# Altium schematic symbol library WCAP-ATLI.SchLib: 162 symbols (part 2 of 4)
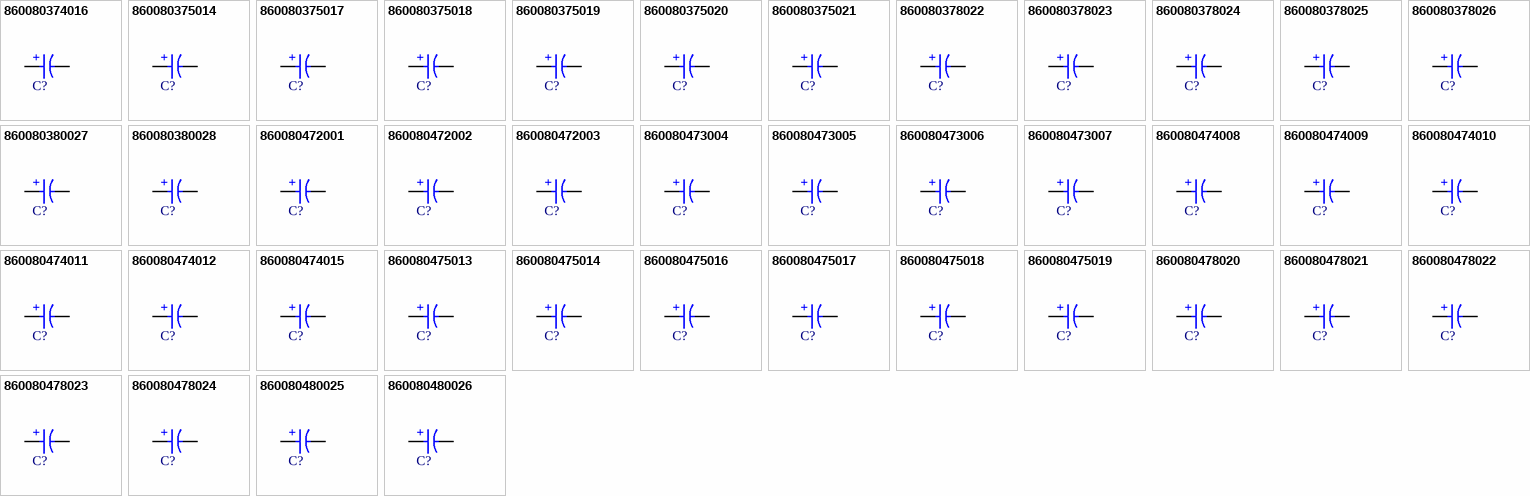
[diagram p5: symbols 860080374016 to 860080480026]

## 860080378026
designator C?, comment 3300µF  (value not drawn)
WCAP-ATLI Aluminum Electrolytic Capacitor, Radial, THT, D13 x H35mm, 3300µF, 16V; Manufacturer Part Number: 860080378026; Manufacturer: Wurth Elektronik; Capacitance Tolerance: +/-20%; Dissipation Factor: 12%; Endurance: 5000h; Leakage Current: 528µA; Ripple Current: 3490mA; Technical Reference: ATEI350332M016DSPABE000; Category: Aluminum Electrolytic Capacitors; Match Code: WCAP-ATLI; ComponentLink1Description: Website Link; ComponentLink1URL: https://www.we-online.com/redexpert/article/860080378026?ad; ComponentLink2Description: Datasheet Link; ComponentLink2URL: https://www.we-online.com/redexpert/spec/860080378026?ad; Mount: Through Hole; Operating Temperature Max: 105°C; Operating Temperature Min: -55°C; Packaging: Ammo Pack; Height: 35mm; Diameter: 13mm; Capacitance: 3300µF; Rated Voltage (DC): 16V
footprint WCAP-ATLI_D13H35
simulation model 860080378026_3.3mF
pins: 1 P, 2 N
text: +

## 860080380027
designator C?, comment 3900µF  (value not drawn)
WCAP-ATLI Aluminum Electrolytic Capacitor, Radial, THT, D16 x H25mm, 3900µF, 16V; Manufacturer Part Number: 860080380027; Manufacturer: Wurth Elektronik; Capacitance Tolerance: +/-20%; Dissipation Factor: 12%; Endurance: 5000h; Leakage Current: 624µA; Ripple Current: 3520mA; Technical Reference: ATEK250392M016DSPAEE000; Category: Aluminum Electrolytic Capacitors; Match Code: WCAP-ATLI; ComponentLink1Description: Website Link; ComponentLink1URL: https://www.we-online.com/redexpert/article/860080380027?ad; ComponentLink2Description: Datasheet Link; ComponentLink2URL: https://www.we-online.com/redexpert/spec/860080380027?ad; Mount: Through Hole; Operating Temperature Max: 105°C; Operating Temperature Min: -55°C; Packaging: Ammo Pack; Height: 25mm; Diameter: 16mm; Capacitance: 3900µF; Rated Voltage (DC): 16V
footprint WCAP-ATLI_D16H25
simulation model 860080380027_3.9mF
pins: 1 P, 2 N
text: +

## 860080380028
designator C?, comment 4700µF  (value not drawn)
WCAP-ATLI Aluminum Electrolytic Capacitor, Radial, THT, D16 x H31.5mm, 4700µF, 16V; Manufacturer Part Number: 860080380028; Manufacturer: Wurth Elektronik; Capacitance Tolerance: +/-20%; Dissipation Factor: 12%; Endurance: 5000h; Leakage Current: 752µA; Ripple Current: 3770mA; Technical Reference: ATEK315472M016DSPADE000; Category: Aluminum Electrolytic Capacitors; Match Code: WCAP-ATLI; ComponentLink1Description: Website Link; ComponentLink1URL: https://www.we-online.com/redexpert/article/860080380028?ad; ComponentLink2Description: Datasheet Link; ComponentLink2URL: https://www.we-online.com/redexpert/spec/860080380028?ad; Mount: Through Hole; Operating Temperature Max: 105°C; Operating Temperature Min: -55°C; Packaging: Ammo Pack; Height: 31.5mm; Diameter: 16mm; Capacitance: 4700µF; Rated Voltage (DC): 16V
footprint WCAP-ATLI_D16H31.5
simulation model 860080380028_4.7mF
pins: 1 P, 2 N
text: +

## 860080472001
designator C?, comment 39µF  (value not drawn)
WCAP-ATLI Aluminum Electrolytic Capacitor, Radial, THT, D5 x H11mm, 39µF, 25V; Manufacturer Part Number: 860080472001; Manufacturer: Wurth Elektronik; Capacitance Tolerance: +/-20%; Dissipation Factor: 10%; Endurance: 2000h; Leakage Current: 9.75µA; Ripple Current: 210mA; Technical Reference: ATEC110390M025DSPA3B000; Category: Aluminum Electrolytic Capacitors; Match Code: WCAP-ATLI; ComponentLink1Description: Website Link; ComponentLink1URL: https://www.we-online.com/redexpert/article/860080472001?ad; ComponentLink2Description: Datasheet Link; ComponentLink2URL: https://www.we-online.com/redexpert/spec/860080472001?ad; Mount: Through Hole; Operating Temperature Max: 105°C; Operating Temperature Min: -55°C; Packaging: Ammo Pack; Height: 11mm; Diameter: 5mm; Capacitance: 39µF; Rated Voltage (DC): 25V
footprint WCAP-ATLI_D5H11
simulation model 860080472001_39uF
pins: 1 P, 2 N
text: +

## 860080472002
designator C?, comment 47µF  (value not drawn)
WCAP-ATLI Aluminum Electrolytic Capacitor, Radial, THT, D5 x H11mm, 47µF, 25V; Manufacturer Part Number: 860080472002; Manufacturer: Wurth Elektronik; Capacitance Tolerance: +/-20%; Dissipation Factor: 10%; Endurance: 2000h; Leakage Current: 11.75µA; Ripple Current: 240mA; Technical Reference: ATEC110470M025DSPA3B000; Category: Aluminum Electrolytic Capacitors; Match Code: WCAP-ATLI; ComponentLink1Description: Website Link; ComponentLink1URL: https://www.we-online.com/redexpert/article/860080472002?ad; ComponentLink2Description: Datasheet Link; ComponentLink2URL: https://www.we-online.com/redexpert/spec/860080472002?ad; Mount: Through Hole; Operating Temperature Max: 105°C; Operating Temperature Min: -55°C; Packaging: Ammo Pack; Height: 11mm; Diameter: 5mm; Capacitance: 47µF; Rated Voltage (DC): 25V
footprint WCAP-ATLI_D5H11
simulation model 860080472002_47uF
pins: 1 P, 2 N
text: +

## 860080472003
designator C?, comment 56µF  (value not drawn)
WCAP-ATLI Aluminum Electrolytic Capacitor, Radial, THT, D5 x H11mm, 56µF, 25V; Manufacturer Part Number: 860080472003; Manufacturer: Wurth Elektronik; Capacitance Tolerance: +/-20%; Dissipation Factor: 10%; Endurance: 2000h; Leakage Current: 14µA; Ripple Current: 256mA; Technical Reference: ATEC110560M025DSPA3B000; Category: Aluminum Electrolytic Capacitors; Match Code: WCAP-ATLI; ComponentLink1Description: Website Link; ComponentLink1URL: https://www.we-online.com/redexpert/article/860080472003?ad; ComponentLink2Description: Datasheet Link; ComponentLink2URL: https://www.we-online.com/redexpert/spec/860080472003?ad; Mount: Through Hole; Operating Temperature Max: 105°C; Operating Temperature Min: -55°C; Packaging: Ammo Pack; Height: 11mm; Diameter: 5mm; Capacitance: 56µF; Rated Voltage (DC): 25V
footprint WCAP-ATLI_D5H11
simulation model 860080472003_56uF
pins: 1 P, 2 N
text: +

## 860080473004
designator C?, comment 68µF  (value not drawn)
WCAP-ATLI Aluminum Electrolytic Capacitor, Radial, THT, D6.3 x H11mm, 68µF, 25V; Manufacturer Part Number: 860080473004; Manufacturer: Wurth Elektronik; Capacitance Tolerance: +/-20%; Dissipation Factor: 10%; Endurance: 2000h; Leakage Current: 17µA; Ripple Current: 300mA; Technical Reference: ATED110680M025DSPA4B000; Category: Aluminum Electrolytic Capacitors; Match Code: WCAP-ATLI; ComponentLink1Description: Website Link; ComponentLink1URL: https://www.we-online.com/redexpert/article/860080473004?ad; ComponentLink2Description: Datasheet Link; ComponentLink2URL: https://www.we-online.com/redexpert/spec/860080473004?ad; Mount: Through Hole; Operating Temperature Max: 105°C; Operating Temperature Min: -55°C; Packaging: Ammo Pack; Height: 11mm; Diameter: 6.3mm; Capacitance: 68µF; Rated Voltage (DC): 25V
footprint WCAP-ATLI_D6.3H11
simulation model 860080473004_68uF
pins: 1 P, 2 N
text: +

## 860080473005
designator C?, comment 82µF  (value not drawn)
WCAP-ATLI Aluminum Electrolytic Capacitor, Radial, THT, D6.3 x H11mm, 82µF, 25V; Manufacturer Part Number: 860080473005; Manufacturer: Wurth Elektronik; Capacitance Tolerance: +/-20%; Dissipation Factor: 10%; Endurance: 2000h; Leakage Current: 20.5µA; Ripple Current: 350mA; Technical Reference: ATED110820M025DSPA4B000; Category: Aluminum Electrolytic Capacitors; Match Code: WCAP-ATLI; ComponentLink1Description: Website Link; ComponentLink1URL: https://www.we-online.com/redexpert/article/860080473005?ad; ComponentLink2Description: Datasheet Link; ComponentLink2URL: https://www.we-online.com/redexpert/spec/860080473005?ad; Mount: Through Hole; Operating Temperature Max: 105°C; Operating Temperature Min: -55°C; Packaging: Ammo Pack; Height: 11mm; Diameter: 6.3mm; Capacitance: 82µF; Rated Voltage (DC): 25V
footprint WCAP-ATLI_D6.3H11
simulation model 860080473005_82uF
pins: 1 P, 2 N
text: +

## 860080473006
designator C?, comment 100µF  (value not drawn)
WCAP-ATLI Aluminum Electrolytic Capacitor, Radial, THT, D6.3 x H11mm, 100µF, 25V; Manufacturer Part Number: 860080473006; Manufacturer: Wurth Elektronik; Capacitance Tolerance: +/-20%; Dissipation Factor: 10%; Endurance: 2000h; Leakage Current: 25µA; Ripple Current: 410mA; Technical Reference: ATED110101M025DSPA4B000; Category: Aluminum Electrolytic Capacitors; Match Code: WCAP-ATLI; ComponentLink1Description: Website Link; ComponentLink1URL: https://www.we-online.com/redexpert/article/860080473006?ad; ComponentLink2Description: Datasheet Link; ComponentLink2URL: https://www.we-online.com/redexpert/spec/860080473006?ad; Mount: Through Hole; Operating Temperature Max: 105°C; Operating Temperature Min: -55°C; Packaging: Ammo Pack; Height: 11mm; Diameter: 6.3mm; Capacitance: 100µF; Rated Voltage (DC): 25V
footprint WCAP-ATLI_D6.3H11
simulation model 860080473006_100uF
pins: 1 P, 2 N
text: +

## 860080473007
designator C?, comment 120µF  (value not drawn)
WCAP-ATLI Aluminum Electrolytic Capacitor, Radial, THT, D6.3 x H15mm, 120µF, 25V; Manufacturer Part Number: 860080473007; Manufacturer: Wurth Elektronik; Capacitance Tolerance: +/-20%; Dissipation Factor: 10%; Endurance: 2000h; Leakage Current: 30µA; Ripple Current: 490mA; Technical Reference: ATED150121M025DSPA4B000; Category: Aluminum Electrolytic Capacitors; Match Code: WCAP-ATLI; ComponentLink1Description: Website Link; ComponentLink1URL: https://www.we-online.com/redexpert/article/860080473007?ad; ComponentLink2Description: Datasheet Link; ComponentLink2URL: https://www.we-online.com/redexpert/spec/860080473007?ad; Mount: Through Hole; Operating Temperature Max: 105°C; Operating Temperature Min: -55°C; Packaging: Ammo Pack; Height: 15mm; Diameter: 6.3mm; Capacitance: 120µF; Rated Voltage (DC): 25V
footprint WCAP-ATLI_D6.3H15
simulation model 860080473007_120uF
pins: 1 P, 2 N
text: +

## 860080474008
designator C?, comment 150µF  (value not drawn)
WCAP-ATLI Aluminum Electrolytic Capacitor, Radial, THT, D8 x H11.5mm, 150µF, 25V; Manufacturer Part Number: 860080474008; Manufacturer: Wurth Elektronik; Capacitance Tolerance: +/-20%; Dissipation Factor: 10%; Endurance: 3000h; Leakage Current: 37.5µA; Ripple Current: 540mA; Technical Reference: ATEE115151M025DSPA7C000; Category: Aluminum Electrolytic Capacitors; Match Code: WCAP-ATLI; ComponentLink1Description: Website Link; ComponentLink1URL: https://www.we-online.com/redexpert/article/860080474008?ad; ComponentLink2Description: Datasheet Link; ComponentLink2URL: https://www.we-online.com/redexpert/spec/860080474008?ad; Mount: Through Hole; Operating Temperature Max: 105°C; Operating Temperature Min: -55°C; Packaging: Ammo Pack; Height: 11.5mm; Diameter: 8mm; Capacitance: 150µF; Rated Voltage (DC): 25V
footprint WCAP-ATLI_D8H11.5
simulation model 860080474008_150uF
pins: 1 P, 2 N
text: +

## 860080474009
designator C?, comment 180µF  (value not drawn)
WCAP-ATLI Aluminum Electrolytic Capacitor, Radial, THT, D8 x H11.5mm, 180µF, 25V; Manufacturer Part Number: 860080474009; Manufacturer: Wurth Elektronik; Capacitance Tolerance: +/-20%; Dissipation Factor: 10%; Endurance: 3000h; Leakage Current: 45µA; Ripple Current: 620mA; Technical Reference: ATEE115181M025DSPA7C000; Category: Aluminum Electrolytic Capacitors; Match Code: WCAP-ATLI; ComponentLink1Description: Website Link; ComponentLink1URL: https://www.we-online.com/redexpert/article/860080474009?ad; ComponentLink2Description: Datasheet Link; ComponentLink2URL: https://www.we-online.com/redexpert/spec/860080474009?ad; Mount: Through Hole; Operating Temperature Max: 105°C; Operating Temperature Min: -55°C; Packaging: Ammo Pack; Height: 11.5mm; Diameter: 8mm; Capacitance: 180µF; Rated Voltage (DC): 25V
footprint WCAP-ATLI_D8H11.5
simulation model 860080474009_180uF
pins: 1 P, 2 N
text: +

## 860080474010
designator C?, comment 220µF  (value not drawn)
WCAP-ATLI Aluminum Electrolytic Capacitor, Radial, THT, D8 x H11.5mm, 220µF, 25V; Manufacturer Part Number: 860080474010; Manufacturer: Wurth Elektronik; Capacitance Tolerance: +/-20%; Dissipation Factor: 10%; Endurance: 3000h; Leakage Current: 55µA; Ripple Current: 750mA; Technical Reference: ATEE115221M025DSPA7C000; Category: Aluminum Electrolytic Capacitors; Match Code: WCAP-ATLI; ComponentLink1Description: Website Link; ComponentLink1URL: https://www.we-online.com/redexpert/article/860080474010?ad; ComponentLink2Description: Datasheet Link; ComponentLink2URL: https://www.we-online.com/redexpert/spec/860080474010?ad; Mount: Through Hole; Operating Temperature Max: 105°C; Operating Temperature Min: -55°C; Packaging: Ammo Pack; Height: 11.5mm; Diameter: 8mm; Capacitance: 220µF; Rated Voltage (DC): 25V
footprint WCAP-ATLI_D8H11.5
simulation model 860080474010_220uF
pins: 1 P, 2 N
text: +

## 860080474011
designator C?, comment 270µF  (value not drawn)
WCAP-ATLI Aluminum Electrolytic Capacitor, Radial, THT, D8 x H16mm, 270µF, 25V; Manufacturer Part Number: 860080474011; Manufacturer: Wurth Elektronik; Capacitance Tolerance: +/-20%; Dissipation Factor: 10%; Endurance: 3000h; Leakage Current: 67.5µA; Ripple Current: 850mA; Technical Reference: ATEE160271M025DSPA7C000; Category: Aluminum Electrolytic Capacitors; Match Code: WCAP-ATLI; ComponentLink1Description: Website Link; ComponentLink1URL: https://www.we-online.com/redexpert/article/860080474011?ad; ComponentLink2Description: Datasheet Link; ComponentLink2URL: https://www.we-online.com/redexpert/spec/860080474011?ad; Mount: Through Hole; Operating Temperature Max: 105°C; Operating Temperature Min: -55°C; Packaging: Ammo Pack; Height: 16mm; Diameter: 8mm; Capacitance: 270µF; Rated Voltage (DC): 25V
footprint WCAP-ATLI_D8H16
simulation model 860080474011_270uF
pins: 1 P, 2 N
text: +

## 860080474012
designator C?, comment 330µF  (value not drawn)
WCAP-ATLI Aluminum Electrolytic Capacitor, Radial, THT, D8 x H16mm, 330µF, 25V; Manufacturer Part Number: 860080474012; Manufacturer: Wurth Elektronik; Capacitance Tolerance: +/-20%; Dissipation Factor: 10%; Endurance: 3000h; Leakage Current: 82.5µA; Ripple Current: 990mA; Technical Reference: ATEE160331M025DSPA7C000; Category: Aluminum Electrolytic Capacitors; Match Code: WCAP-ATLI; ComponentLink1Description: Website Link; ComponentLink1URL: https://www.we-online.com/redexpert/article/860080474012?ad; ComponentLink2Description: Datasheet Link; ComponentLink2URL: https://www.we-online.com/redexpert/spec/860080474012?ad; Mount: Through Hole; Operating Temperature Max: 105°C; Operating Temperature Min: -55°C; Packaging: Ammo Pack; Height: 16mm; Diameter: 8mm; Capacitance: 330µF; Rated Voltage (DC): 25V
footprint WCAP-ATLI_D8H16
simulation model 860080474012_330uF
pins: 1 P, 2 N
text: +

## 860080474015
designator C?, comment 470µF  (value not drawn)
WCAP-ATLI Aluminum Electrolytic Capacitor, Radial, THT, D8 x H20mm, 470µF, 25V; Manufacturer Part Number: 860080474015; Manufacturer: Wurth Elektronik; Capacitance Tolerance: +/-20%; Dissipation Factor: 10%; Endurance: 3000h; Leakage Current: 117.5µA; Ripple Current: 1260mA; Technical Reference: ATEE200471M025DSPA7C000; Category: Aluminum Electrolytic Capacitors; Match Code: WCAP-ATLI; ComponentLink1Description: Website Link; ComponentLink1URL: https://www.we-online.com/redexpert/article/860080474015?ad; ComponentLink2Description: Datasheet Link; ComponentLink2URL: https://www.we-online.com/redexpert/spec/860080474015?ad; Mount: Through Hole; Operating Temperature Max: 105°C; Operating Temperature Min: -55°C; Packaging: Ammo Pack; Height: 20mm; Diameter: 8mm; Capacitance: 470µF; Rated Voltage (DC): 25V
footprint WCAP-ATLI_D8H20
simulation model 860080474015_470uF
pins: 1 P, 2 N
text: +

## 860080475013
designator C?, comment 330µF  (value not drawn)
WCAP-ATLI Aluminum Electrolytic Capacitor, Radial, THT, D10 x H12.5mm, 330µF, 25V; Manufacturer Part Number: 860080475013; Manufacturer: Wurth Elektronik; Capacitance Tolerance: +/-20%; Dissipation Factor: 10%; Endurance: 5000h; Leakage Current: 82.5µA; Ripple Current: 1010mA; Technical Reference: ATEF125331M025DSPA9E000; Category: Aluminum Electrolytic Capacitors; Match Code: WCAP-ATLI; ComponentLink1Description: Website Link; ComponentLink1URL: https://www.we-online.com/redexpert/article/860080475013?ad; ComponentLink2Description: Datasheet Link; ComponentLink2URL: https://www.we-online.com/redexpert/spec/860080475013?ad; Mount: Through Hole; Operating Temperature Max: 105°C; Operating Temperature Min: -55°C; Packaging: Ammo Pack; Height: 12.5mm; Diameter: 10mm; Capacitance: 330µF; Rated Voltage (DC): 25V
footprint WCAP-ATLI_D10H12.5
simulation model 860080475013_330uF
pins: 1 P, 2 N
text: +

## 860080475014
designator C?, comment 390µF  (value not drawn)
WCAP-ATLI Aluminum Electrolytic Capacitor, Radial, THT, D10 x H12.5mm, 390µF, 25V; Manufacturer Part Number: 860080475014; Manufacturer: Wurth Elektronik; Capacitance Tolerance: +/-20%; Dissipation Factor: 10%; Endurance: 5000h; Leakage Current: 97.5µA; Ripple Current: 1050mA; Technical Reference: ATEF125391M025DSPA9E000; Category: Aluminum Electrolytic Capacitors; Match Code: WCAP-ATLI; ComponentLink1Description: Website Link; ComponentLink1URL: https://www.we-online.com/redexpert/article/860080475014?ad; ComponentLink2Description: Datasheet Link; ComponentLink2URL: https://www.we-online.com/redexpert/spec/860080475014?ad; Mount: Through Hole; Operating Temperature Max: 105°C; Operating Temperature Min: -55°C; Packaging: Ammo Pack; Height: 12.5mm; Diameter: 10mm; Capacitance: 390µF; Rated Voltage (DC): 25V
footprint WCAP-ATLI_D10H12.5
simulation model 860080475014_390uF
pins: 1 P, 2 N
text: +

## 860080475016
designator C?, comment 470µF  (value not drawn)
WCAP-ATLI Aluminum Electrolytic Capacitor, Radial, THT, D10 x H16mm, 470µF, 25V; Manufacturer Part Number: 860080475016; Manufacturer: Wurth Elektronik; Capacitance Tolerance: +/-20%; Dissipation Factor: 10%; Endurance: 5000h; Leakage Current: 117.5µA; Ripple Current: 1415mA; Technical Reference: ATEF160471M025DSPAAE000; Category: Aluminum Electrolytic Capacitors; Match Code: WCAP-ATLI; ComponentLink1Description: Website Link; ComponentLink1URL: https://www.we-online.com/redexpert/article/860080475016?ad; ComponentLink2Description: Datasheet Link; ComponentLink2URL: https://www.we-online.com/redexpert/spec/860080475016?ad; Mount: Through Hole; Operating Temperature Max: 105°C; Operating Temperature Min: -55°C; Packaging: Ammo Pack; Height: 16mm; Diameter: 10mm; Capacitance: 470µF; Rated Voltage (DC): 25V
footprint WCAP-ATLI_D10H16
simulation model 860080475016_470uF
pins: 1 P, 2 N
text: +

## 860080475017
designator C?, comment 560µF  (value not drawn)
WCAP-ATLI Aluminum Electrolytic Capacitor, Radial, THT, D10 x H20mm, 560µF, 25V; Manufacturer Part Number: 860080475017; Manufacturer: Wurth Elektronik; Capacitance Tolerance: +/-20%; Dissipation Factor: 10%; Endurance: 5000h; Leakage Current: 140µA; Ripple Current: 1450mA; Technical Reference: ATEF200561M025DSPAAE000; Category: Aluminum Electrolytic Capacitors; Match Code: WCAP-ATLI; ComponentLink1Description: Website Link; ComponentLink1URL: https://www.we-online.com/redexpert/article/860080475017?ad; ComponentLink2Description: Datasheet Link; ComponentLink2URL: https://www.we-online.com/redexpert/spec/860080475017?ad; Mount: Through Hole; Operating Temperature Max: 105°C; Operating Temperature Min: -55°C; Packaging: Ammo Pack; Height: 20mm; Diameter: 10mm; Capacitance: 560µF; Rated Voltage (DC): 25V
footprint WCAP-ATLI_D10H20
simulation model 860080475017_560uF
pins: 1 P, 2 N
text: +

## 860080475018
designator C?, comment 680µF  (value not drawn)
WCAP-ATLI Aluminum Electrolytic Capacitor, Radial, THT, D10 x H20mm, 680µF, 25V; Manufacturer Part Number: 860080475018; Manufacturer: Wurth Elektronik; Capacitance Tolerance: +/-20%; Dissipation Factor: 10%; Endurance: 5000h; Leakage Current: 170µA; Ripple Current: 1570mA; Technical Reference: ATEF200681M025DSPAAE000; Category: Aluminum Electrolytic Capacitors; Match Code: WCAP-ATLI; ComponentLink1Description: Website Link; ComponentLink1URL: https://www.we-online.com/redexpert/article/860080475018?ad; ComponentLink2Description: Datasheet Link; ComponentLink2URL: https://www.we-online.com/redexpert/spec/860080475018?ad; Mount: Through Hole; Operating Temperature Max: 105°C; Operating Temperature Min: -55°C; Packaging: Ammo Pack; Height: 20mm; Diameter: 10mm; Capacitance: 680µF; Rated Voltage (DC): 25V
footprint WCAP-ATLI_D10H20
simulation model 860080475018_680uF
pins: 1 P, 2 N
text: +

## 860080475019
designator C?, comment 820µF  (value not drawn)
WCAP-ATLI Aluminum Electrolytic Capacitor, Radial, THT, D10 x H25mm, 820µF, 25V; Manufacturer Part Number: 860080475019; Manufacturer: Wurth Elektronik; Capacitance Tolerance: +/-20%; Dissipation Factor: 10%; Endurance: 5000h; Leakage Current: 205µA; Ripple Current: 1910mA; Technical Reference: ATEF250821M025DSPAAE000; Category: Aluminum Electrolytic Capacitors; Match Code: WCAP-ATLI; ComponentLink1Description: Website Link; ComponentLink1URL: https://www.we-online.com/redexpert/article/860080475019?ad; ComponentLink2Description: Datasheet Link; ComponentLink2URL: https://www.we-online.com/redexpert/spec/860080475019?ad; Mount: Through Hole; Operating Temperature Max: 105°C; Operating Temperature Min: -55°C; Packaging: Ammo Pack; Height: 25mm; Diameter: 10mm; Capacitance: 820µF; Rated Voltage (DC): 25V
footprint WCAP-ATLI_D10H25
simulation model 860080475019_820uF
pins: 1 P, 2 N
text: +

## 860080478020
designator C?, comment 1000µF  (value not drawn)
WCAP-ATLI Aluminum Electrolytic Capacitor, Radial, THT, D13 x H20mm, 1000µF, 25V; Manufacturer Part Number: 860080478020; Manufacturer: Wurth Elektronik; Capacitance Tolerance: +/-20%; Dissipation Factor: 10%; Endurance: 5000h; Leakage Current: 250µA; Ripple Current: 2340mA; Technical Reference: ATEI200102M025DSPACE000; Category: Aluminum Electrolytic Capacitors; Match Code: WCAP-ATLI; ComponentLink1Description: Website Link; ComponentLink1URL: https://www.we-online.com/redexpert/article/860080478020?ad; ComponentLink2Description: Datasheet Link; ComponentLink2URL: https://www.we-online.com/redexpert/spec/860080478020?ad; Mount: Through Hole; Operating Temperature Max: 105°C; Operating Temperature Min: -55°C; Packaging: Ammo Pack; Height: 20mm; Diameter: 13mm; Capacitance: 1000µF; Rated Voltage (DC): 25V
footprint WCAP-ATLI_D13H20
simulation model 860080478020_1mF
pins: 1 P, 2 N
text: +

## 860080478021
designator C?, comment 1200µF  (value not drawn)
WCAP-ATLI Aluminum Electrolytic Capacitor, Radial, THT, D13 x H20mm, 1200µF, 25V; Manufacturer Part Number: 860080478021; Manufacturer: Wurth Elektronik; Capacitance Tolerance: +/-20%; Dissipation Factor: 10%; Endurance: 5000h; Leakage Current: 300µA; Ripple Current: 2390mA; Technical Reference: ATEI200122M025DSPACE000; Category: Aluminum Electrolytic Capacitors; Match Code: WCAP-ATLI; ComponentLink1Description: Website Link; ComponentLink1URL: https://www.we-online.com/redexpert/article/860080478021?ad; ComponentLink2Description: Datasheet Link; ComponentLink2URL: https://www.we-online.com/redexpert/spec/860080478021?ad; Mount: Through Hole; Operating Temperature Max: 105°C; Operating Temperature Min: -55°C; Packaging: Ammo Pack; Height: 20mm; Diameter: 13mm; Capacitance: 1200µF; Rated Voltage (DC): 25V
footprint WCAP-ATLI_D13H20
simulation model 860080478021_1.2mF
pins: 1 P, 2 N
text: +

## 860080478022
designator C?, comment 1500µF  (value not drawn)
WCAP-ATLI Aluminum Electrolytic Capacitor, Radial, THT, D13 x H25mm, 1500µF, 25V; Manufacturer Part Number: 860080478022; Manufacturer: Wurth Elektronik; Capacitance Tolerance: +/-20%; Dissipation Factor: 10%; Endurance: 5000h; Leakage Current: 375µA; Ripple Current: 2710mA; Technical Reference: ATEI250152M025DSPACE000; Category: Aluminum Electrolytic Capacitors; Match Code: WCAP-ATLI; ComponentLink1Description: Website Link; ComponentLink1URL: https://www.we-online.com/redexpert/article/860080478022?ad; ComponentLink2Description: Datasheet Link; ComponentLink2URL: https://www.we-online.com/redexpert/spec/860080478022?ad; Mount: Through Hole; Operating Temperature Max: 105°C; Operating Temperature Min: -55°C; Packaging: Ammo Pack; Height: 25mm; Diameter: 13mm; Capacitance: 1500µF; Rated Voltage (DC): 25V
footprint WCAP-ATLI_D13H25
simulation model 860080478022_1.5mF
pins: 1 P, 2 N
text: +

## 860080478023
designator C?, comment 1800µF  (value not drawn)
WCAP-ATLI Aluminum Electrolytic Capacitor, Radial, THT, D13 x H30mm, 1800µF, 25V; Manufacturer Part Number: 860080478023; Manufacturer: Wurth Elektronik; Capacitance Tolerance: +/-20%; Dissipation Factor: 10%; Endurance: 5000h; Leakage Current: 450µA; Ripple Current: 3150mA; Technical Reference: ATEI300182M025DSPACE000; Category: Aluminum Electrolytic Capacitors; Match Code: WCAP-ATLI; ComponentLink1Description: Website Link; ComponentLink1URL: https://www.we-online.com/redexpert/article/860080478023?ad; ComponentLink2Description: Datasheet Link; ComponentLink2URL: https://www.we-online.com/redexpert/spec/860080478023?ad; Mount: Through Hole; Operating Temperature Max: 105°C; Operating Temperature Min: -55°C; Packaging: Ammo Pack; Height: 30mm; Diameter: 13mm; Capacitance: 1800µF; Rated Voltage (DC): 25V
footprint WCAP-ATLI_D13H30
simulation model 860080478023_1.8mF
pins: 1 P, 2 N
text: +

## 860080478024
designator C?, comment 2200µF  (value not drawn)
WCAP-ATLI Aluminum Electrolytic Capacitor, Radial, THT, D13 x H35mm, 2200µF, 25V; Manufacturer Part Number: 860080478024; Manufacturer: Wurth Elektronik; Capacitance Tolerance: +/-20%; Dissipation Factor: 10%; Endurance: 5000h; Leakage Current: 550µA; Ripple Current: 3420mA; Technical Reference: ATEI350222M025DSPABE000; Category: Aluminum Electrolytic Capacitors; Match Code: WCAP-ATLI; ComponentLink1Description: Website Link; ComponentLink1URL: https://www.we-online.com/redexpert/article/860080478024?ad; ComponentLink2Description: Datasheet Link; ComponentLink2URL: https://www.we-online.com/redexpert/spec/860080478024?ad; Mount: Through Hole; Operating Temperature Max: 105°C; Operating Temperature Min: -55°C; Packaging: Ammo Pack; Height: 35mm; Diameter: 13mm; Capacitance: 2200µF; Rated Voltage (DC): 25V
footprint WCAP-ATLI_D13H35
simulation model 860080478024_2.2mF
pins: 1 P, 2 N
text: +

## 860080480025
designator C?, comment 2700µF  (value not drawn)
WCAP-ATLI Aluminum Electrolytic Capacitor, Radial, THT, D16 x H31.5mm, 2700µF, 25V; Manufacturer Part Number: 860080480025; Manufacturer: Wurth Elektronik; Capacitance Tolerance: +/-20%; Dissipation Factor: 10%; Endurance: 5000h; Leakage Current: 675µA; Ripple Current: 3480mA; Technical Reference: ATEK315272M025DSPADE000; Category: Aluminum Electrolytic Capacitors; Match Code: WCAP-ATLI; ComponentLink1Description: Website Link; ComponentLink1URL: https://www.we-online.com/redexpert/article/860080480025?ad; ComponentLink2Description: Datasheet Link; ComponentLink2URL: https://www.we-online.com/redexpert/spec/860080480025?ad; Mount: Through Hole; Operating Temperature Max: 105°C; Operating Temperature Min: -55°C; Packaging: Ammo Pack; Height: 31.5mm; Diameter: 16mm; Capacitance: 2700µF; Rated Voltage (DC): 25V
footprint WCAP-ATLI_D16H31.5
simulation model 860080480025_2.7mF
pins: 1 P, 2 N
text: +

## 860080480026
designator C?, comment 3300µF  (value not drawn)
WCAP-ATLI Aluminum Electrolytic Capacitor, Radial, THT, D16 x H31.5mm, 3300µF, 25V; Manufacturer Part Number: 860080480026; Manufacturer: Wurth Elektronik; Capacitance Tolerance: +/-20%; Dissipation Factor: 10%; Endurance: 5000h; Leakage Current: 825µA; Ripple Current: 3600mA; Technical Reference: ATEK315332M025DSPADE000; Category: Aluminum Electrolytic Capacitors; Match Code: WCAP-ATLI; ComponentLink1Description: Website Link; ComponentLink1URL: https://www.we-online.com/redexpert/article/860080480026?ad; ComponentLink2Description: Datasheet Link; ComponentLink2URL: https://www.we-online.com/redexpert/spec/860080480026?ad; Mount: Through Hole; Operating Temperature Max: 105°C; Operating Temperature Min: -55°C; Packaging: Ammo Pack; Height: 31.5mm; Diameter: 16mm; Capacitance: 3300µF; Rated Voltage (DC): 25V
footprint WCAP-ATLI_D16H31.5
simulation model 860080480026_3.3mF
pins: 1 P, 2 N
text: +

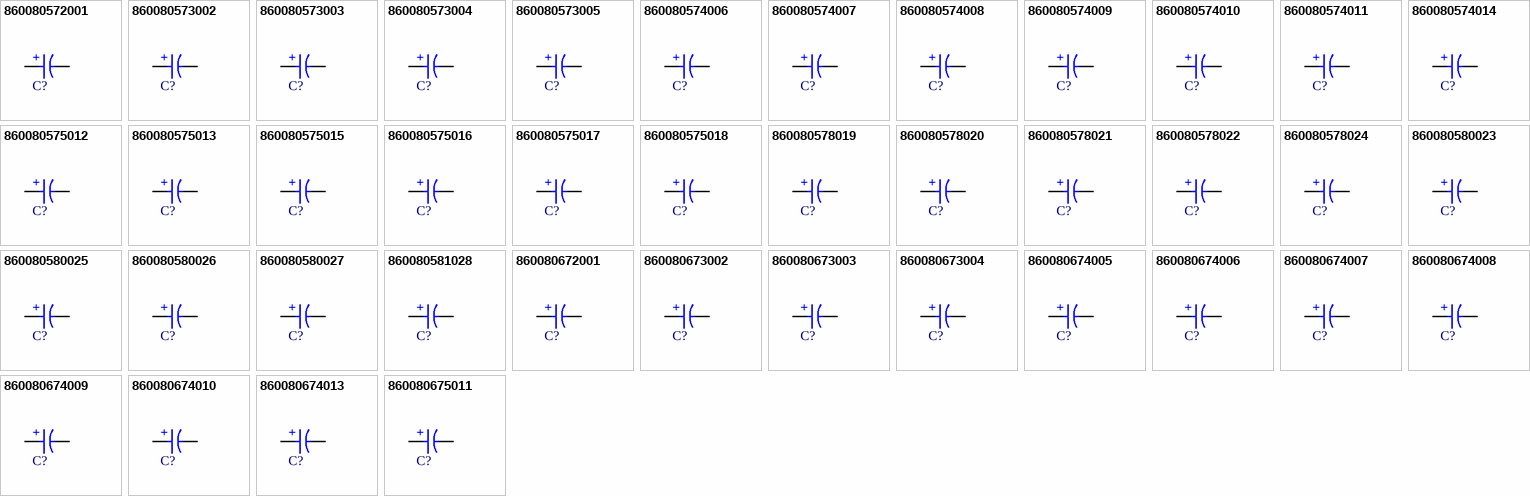
[diagram p2: symbols 860080572001 to 860080675011]

## 860080572001
designator C?, comment 33µF  (value not drawn)
WCAP-ATLI Aluminum Electrolytic Capacitor, Radial, THT, D5 x H11mm, 33µF, 35V; Manufacturer Part Number: 860080572001; Manufacturer: Wurth Elektronik; Capacitance Tolerance: +/-20%; Dissipation Factor: 9%; Endurance: 2000h; Leakage Current: 11.55µA; Ripple Current: 230mA; Technical Reference: ATEC110330M035DSPA3B000; Category: Aluminum Electrolytic Capacitors; Match Code: WCAP-ATLI; ComponentLink1Description: Website Link; ComponentLink1URL: https://www.we-online.com/redexpert/article/860080572001?ad; ComponentLink2Description: Datasheet Link; ComponentLink2URL: https://www.we-online.com/redexpert/spec/860080572001?ad; Mount: Through Hole; Operating Temperature Max: 105°C; Operating Temperature Min: -55°C; Packaging: Ammo Pack; Height: 11mm; Diameter: 5mm; Capacitance: 33µF; Rated Voltage (DC): 35V
footprint WCAP-ATLI_D5H11
simulation model 860080572001_33uF
pins: 1 P, 2 N
text: +

## 860080573002
designator C?, comment 39µF  (value not drawn)
WCAP-ATLI Aluminum Electrolytic Capacitor, Radial, THT, D6.3 x H11mm, 39µF, 35V; Manufacturer Part Number: 860080573002; Manufacturer: Wurth Elektronik; Capacitance Tolerance: +/-20%; Dissipation Factor: 9%; Endurance: 2000h; Leakage Current: 13.65µA; Ripple Current: 277mA; Technical Reference: ATED110390M035DSPA4B000; Category: Aluminum Electrolytic Capacitors; Match Code: WCAP-ATLI; ComponentLink1Description: Website Link; ComponentLink1URL: https://www.we-online.com/redexpert/article/860080573002?ad; ComponentLink2Description: Datasheet Link; ComponentLink2URL: https://www.we-online.com/redexpert/spec/860080573002?ad; Mount: Through Hole; Operating Temperature Max: 105°C; Operating Temperature Min: -55°C; Packaging: Ammo Pack; Height: 11mm; Diameter: 6.3mm; Capacitance: 39µF; Rated Voltage (DC): 35V
footprint WCAP-ATLI_D6.3H11
simulation model 860080573002_39uF
pins: 1 P, 2 N
text: +

## 860080573003
designator C?, comment 47µF  (value not drawn)
WCAP-ATLI Aluminum Electrolytic Capacitor, Radial, THT, D6.3 x H11mm, 47µF, 35V; Manufacturer Part Number: 860080573003; Manufacturer: Wurth Elektronik; Capacitance Tolerance: +/-20%; Dissipation Factor: 9%; Endurance: 2000h; Leakage Current: 16.45µA; Ripple Current: 340mA; Technical Reference: ATED110470M035DSPA4B000; Category: Aluminum Electrolytic Capacitors; Match Code: WCAP-ATLI; ComponentLink1Description: Website Link; ComponentLink1URL: https://www.we-online.com/redexpert/article/860080573003?ad; ComponentLink2Description: Datasheet Link; ComponentLink2URL: https://www.we-online.com/redexpert/spec/860080573003?ad; Mount: Through Hole; Operating Temperature Max: 105°C; Operating Temperature Min: -55°C; Packaging: Ammo Pack; Height: 11mm; Diameter: 6.3mm; Capacitance: 47µF; Rated Voltage (DC): 35V
footprint WCAP-ATLI_D6.3H11
simulation model 860080573003_47uF
pins: 1 P, 2 N
text: +

## 860080573004
designator C?, comment 56µF  (value not drawn)
WCAP-ATLI Aluminum Electrolytic Capacitor, Radial, THT, D6.3 x H11mm, 56µF, 35V; Manufacturer Part Number: 860080573004; Manufacturer: Wurth Elektronik; Capacitance Tolerance: +/-20%; Dissipation Factor: 9%; Endurance: 2000h; Leakage Current: 19.6µA; Ripple Current: 375mA; Technical Reference: ATED110560M035DSPA4B000; Category: Aluminum Electrolytic Capacitors; Match Code: WCAP-ATLI; ComponentLink1Description: Website Link; ComponentLink1URL: https://www.we-online.com/redexpert/article/860080573004?ad; ComponentLink2Description: Datasheet Link; ComponentLink2URL: https://www.we-online.com/redexpert/spec/860080573004?ad; Mount: Through Hole; Operating Temperature Max: 105°C; Operating Temperature Min: -55°C; Packaging: Ammo Pack; Height: 11mm; Diameter: 6.3mm; Capacitance: 56µF; Rated Voltage (DC): 35V
footprint WCAP-ATLI_D6.3H11
simulation model 860080573004_56uF
pins: 1 P, 2 N
text: +

## 860080573005
designator C?, comment 68µF  (value not drawn)
WCAP-ATLI Aluminum Electrolytic Capacitor, Radial, THT, D6.3 x H11mm, 68µF, 35V; Manufacturer Part Number: 860080573005; Manufacturer: Wurth Elektronik; Capacitance Tolerance: +/-20%; Dissipation Factor: 9%; Endurance: 2000h; Leakage Current: 23.8µA; Ripple Current: 400mA; Technical Reference: ATED110680M035DSPA4B000; Category: Aluminum Electrolytic Capacitors; Match Code: WCAP-ATLI; ComponentLink1Description: Website Link; ComponentLink1URL: https://www.we-online.com/redexpert/article/860080573005?ad; ComponentLink2Description: Datasheet Link; ComponentLink2URL: https://www.we-online.com/redexpert/spec/860080573005?ad; Mount: Through Hole; Operating Temperature Max: 105°C; Operating Temperature Min: -55°C; Packaging: Ammo Pack; Height: 11mm; Diameter: 6.3mm; Capacitance: 68µF; Rated Voltage (DC): 35V
footprint WCAP-ATLI_D6.3H11
simulation model 860080573005_68uF
pins: 1 P, 2 N
text: +

## 860080574006
designator C?, comment 82µF  (value not drawn)
WCAP-ATLI Aluminum Electrolytic Capacitor, Radial, THT, D8 x H11.5mm, 82µF, 35V; Manufacturer Part Number: 860080574006; Manufacturer: Wurth Elektronik; Capacitance Tolerance: +/-20%; Dissipation Factor: 9%; Endurance: 3000h; Leakage Current: 28.7µA; Ripple Current: 480mA; Technical Reference: ATEE115820M035DSPA7C000; Category: Aluminum Electrolytic Capacitors; Match Code: WCAP-ATLI; ComponentLink1Description: Website Link; ComponentLink1URL: https://www.we-online.com/redexpert/article/860080574006?ad; ComponentLink2Description: Datasheet Link; ComponentLink2URL: https://www.we-online.com/redexpert/spec/860080574006?ad; Mount: Through Hole; Operating Temperature Max: 105°C; Operating Temperature Min: -55°C; Packaging: Ammo Pack; Height: 11.5mm; Diameter: 8mm; Capacitance: 82µF; Rated Voltage (DC): 35V
footprint WCAP-ATLI_D8H11.5
simulation model 860080574006_82uF
pins: 1 P, 2 N
text: +

## 860080574007
designator C?, comment 100µF  (value not drawn)
WCAP-ATLI Aluminum Electrolytic Capacitor, Radial, THT, D8 x H11.5mm, 100µF, 35V; Manufacturer Part Number: 860080574007; Manufacturer: Wurth Elektronik; Capacitance Tolerance: +/-20%; Dissipation Factor: 9%; Endurance: 3000h; Leakage Current: 35µA; Ripple Current: 560mA; Technical Reference: ATEE115101M035DSPA7C000; Category: Aluminum Electrolytic Capacitors; Match Code: WCAP-ATLI; ComponentLink1Description: Website Link; ComponentLink1URL: https://www.we-online.com/redexpert/article/860080574007?ad; ComponentLink2Description: Datasheet Link; ComponentLink2URL: https://www.we-online.com/redexpert/spec/860080574007?ad; Mount: Through Hole; Operating Temperature Max: 105°C; Operating Temperature Min: -55°C; Packaging: Ammo Pack; Height: 11.5mm; Diameter: 8mm; Capacitance: 100µF; Rated Voltage (DC): 35V
footprint WCAP-ATLI_D8H11.5
simulation model 860080574007_100uF
pins: 1 P, 2 N
text: +

## 860080574008
designator C?, comment 120µF  (value not drawn)
WCAP-ATLI Aluminum Electrolytic Capacitor, Radial, THT, D8 x H11.5mm, 120µF, 35V; Manufacturer Part Number: 860080574008; Manufacturer: Wurth Elektronik; Capacitance Tolerance: +/-20%; Dissipation Factor: 9%; Endurance: 3000h; Leakage Current: 42µA; Ripple Current: 585mA; Technical Reference: ATEE115121M035DSPA7C000; Category: Aluminum Electrolytic Capacitors; Match Code: WCAP-ATLI; ComponentLink1Description: Website Link; ComponentLink1URL: https://www.we-online.com/redexpert/article/860080574008?ad; ComponentLink2Description: Datasheet Link; ComponentLink2URL: https://www.we-online.com/redexpert/spec/860080574008?ad; Mount: Through Hole; Operating Temperature Max: 105°C; Operating Temperature Min: -55°C; Packaging: Ammo Pack; Height: 11.5mm; Diameter: 8mm; Capacitance: 120µF; Rated Voltage (DC): 35V
footprint WCAP-ATLI_D8H11.5
simulation model 860080574008_120uF
pins: 1 P, 2 N
text: +

## 860080574009
designator C?, comment 150µF  (value not drawn)
WCAP-ATLI Aluminum Electrolytic Capacitor, Radial, THT, D8 x H11.5mm, 150µF, 35V; Manufacturer Part Number: 860080574009; Manufacturer: Wurth Elektronik; Capacitance Tolerance: +/-20%; Dissipation Factor: 9%; Endurance: 3000h; Leakage Current: 52.5µA; Ripple Current: 680mA; Technical Reference: ATEE115151M035DSPA7C000; Category: Aluminum Electrolytic Capacitors; Match Code: WCAP-ATLI; ComponentLink1Description: Website Link; ComponentLink1URL: https://www.we-online.com/redexpert/article/860080574009?ad; ComponentLink2Description: Datasheet Link; ComponentLink2URL: https://www.we-online.com/redexpert/spec/860080574009?ad; Mount: Through Hole; Operating Temperature Max: 105°C; Operating Temperature Min: -55°C; Packaging: Ammo Pack; Height: 11.5mm; Diameter: 8mm; Capacitance: 150µF; Rated Voltage (DC): 35V
footprint WCAP-ATLI_D8H11.5
simulation model 860080574009_150uF
pins: 1 P, 2 N
text: +

## 860080574010
designator C?, comment 180µF  (value not drawn)
WCAP-ATLI Aluminum Electrolytic Capacitor, Radial, THT, D8 x H16mm, 180µF, 35V; Manufacturer Part Number: 860080574010; Manufacturer: Wurth Elektronik; Capacitance Tolerance: +/-20%; Dissipation Factor: 9%; Endurance: 3000h; Leakage Current: 63µA; Ripple Current: 810mA; Technical Reference: ATEE160181M035DSPA7C000; Category: Aluminum Electrolytic Capacitors; Match Code: WCAP-ATLI; ComponentLink1Description: Website Link; ComponentLink1URL: https://www.we-online.com/redexpert/article/860080574010?ad; ComponentLink2Description: Datasheet Link; ComponentLink2URL: https://www.we-online.com/redexpert/spec/860080574010?ad; Mount: Through Hole; Operating Temperature Max: 105°C; Operating Temperature Min: -55°C; Packaging: Ammo Pack; Height: 16mm; Diameter: 8mm; Capacitance: 180µF; Rated Voltage (DC): 35V
footprint WCAP-ATLI_D8H16
simulation model 860080574010_180uF
pins: 1 P, 2 N
text: +

## 860080574011
designator C?, comment 220µF  (value not drawn)
WCAP-ATLI Aluminum Electrolytic Capacitor, Radial, THT, D8 x H16mm, 220µF, 35V; Manufacturer Part Number: 860080574011; Manufacturer: Wurth Elektronik; Capacitance Tolerance: +/-20%; Dissipation Factor: 9%; Endurance: 3000h; Leakage Current: 77µA; Ripple Current: 1000mA; Technical Reference: ATEE160221M035DSPA7C000; Category: Aluminum Electrolytic Capacitors; Match Code: WCAP-ATLI; ComponentLink1Description: Website Link; ComponentLink1URL: https://www.we-online.com/redexpert/article/860080574011?ad; ComponentLink2Description: Datasheet Link; ComponentLink2URL: https://www.we-online.com/redexpert/spec/860080574011?ad; Mount: Through Hole; Operating Temperature Max: 105°C; Operating Temperature Min: -55°C; Packaging: Ammo Pack; Height: 16mm; Diameter: 8mm; Capacitance: 220µF; Rated Voltage (DC): 35V
footprint WCAP-ATLI_D8H16
simulation model 860080574011_220uF
pins: 1 P, 2 N
text: +

## 860080574014
designator C?, comment 330µF  (value not drawn)
WCAP-ATLI Aluminum Electrolytic Capacitor, Radial, THT, D8 x H20mm, 330µF, 35V; Manufacturer Part Number: 860080574014; Manufacturer: Wurth Elektronik; Capacitance Tolerance: +/-20%; Dissipation Factor: 9%; Endurance: 3000h; Leakage Current: 115.5µA; Ripple Current: 1210mA; Technical Reference: ATEE200331M035DSPA7C000; Category: Aluminum Electrolytic Capacitors; Match Code: WCAP-ATLI; ComponentLink1Description: Website Link; ComponentLink1URL: https://www.we-online.com/redexpert/article/860080574014?ad; ComponentLink2Description: Datasheet Link; ComponentLink2URL: https://www.we-online.com/redexpert/spec/860080574014?ad; Mount: Through Hole; Operating Temperature Max: 105°C; Operating Temperature Min: -55°C; Packaging: Ammo Pack; Height: 20mm; Diameter: 8mm; Capacitance: 330µF; Rated Voltage (DC): 35V
footprint WCAP-ATLI_D8H20
simulation model 860080574014_330uF
pins: 1 P, 2 N
text: +

## 860080575012
designator C?, comment 220µF  (value not drawn)
WCAP-ATLI Aluminum Electrolytic Capacitor, Radial, THT, D10 x H12.5mm, 220µF, 35V; Manufacturer Part Number: 860080575012; Manufacturer: Wurth Elektronik; Capacitance Tolerance: +/-20%; Dissipation Factor: 9%; Endurance: 5000h; Leakage Current: 77µA; Ripple Current: 1060mA; Technical Reference: ATEF125221M035DSPA9E000; Category: Aluminum Electrolytic Capacitors; Match Code: WCAP-ATLI; ComponentLink1Description: Website Link; ComponentLink1URL: https://www.we-online.com/redexpert/article/860080575012?ad; ComponentLink2Description: Datasheet Link; ComponentLink2URL: https://www.we-online.com/redexpert/spec/860080575012?ad; Mount: Through Hole; Operating Temperature Max: 105°C; Operating Temperature Min: -55°C; Packaging: Ammo Pack; Height: 12.5mm; Diameter: 10mm; Capacitance: 220µF; Rated Voltage (DC): 35V
footprint WCAP-ATLI_D10H12.5
simulation model 860080575012_220uF
pins: 1 P, 2 N
text: +

## 860080575013
designator C?, comment 270µF  (value not drawn)
WCAP-ATLI Aluminum Electrolytic Capacitor, Radial, THT, D10 x H16mm, 270µF, 35V; Manufacturer Part Number: 860080575013; Manufacturer: Wurth Elektronik; Capacitance Tolerance: +/-20%; Dissipation Factor: 9%; Endurance: 5000h; Leakage Current: 94.5µA; Ripple Current: 1190mA; Technical Reference: ATEF160271M035DSPAAE000; Category: Aluminum Electrolytic Capacitors; Match Code: WCAP-ATLI; ComponentLink1Description: Website Link; ComponentLink1URL: https://www.we-online.com/redexpert/article/860080575013?ad; ComponentLink2Description: Datasheet Link; ComponentLink2URL: https://www.we-online.com/redexpert/spec/860080575013?ad; Mount: Through Hole; Operating Temperature Max: 105°C; Operating Temperature Min: -55°C; Packaging: Ammo Pack; Height: 16mm; Diameter: 10mm; Capacitance: 270µF; Rated Voltage (DC): 35V
footprint WCAP-ATLI_D10H16
simulation model 860080575013_270uF
pins: 1 P, 2 N
text: +

## 860080575015
designator C?, comment 330µF  (value not drawn)
WCAP-ATLI Aluminum Electrolytic Capacitor, Radial, THT, D10 x H16mm, 330µF, 35V; Manufacturer Part Number: 860080575015; Manufacturer: Wurth Elektronik; Capacitance Tolerance: +/-20%; Dissipation Factor: 9%; Endurance: 5000h; Leakage Current: 115.5µA; Ripple Current: 1400mA; Technical Reference: ATEF160331M035DSPAAE000; Category: Aluminum Electrolytic Capacitors; Match Code: WCAP-ATLI; ComponentLink1Description: Website Link; ComponentLink1URL: https://www.we-online.com/redexpert/article/860080575015?ad; ComponentLink2Description: Datasheet Link; ComponentLink2URL: https://www.we-online.com/redexpert/spec/860080575015?ad; Mount: Through Hole; Operating Temperature Max: 105°C; Operating Temperature Min: -55°C; Packaging: Ammo Pack; Height: 16mm; Diameter: 10mm; Capacitance: 330µF; Rated Voltage (DC): 35V
footprint WCAP-ATLI_D10H16
simulation model 860080575015_330uF
pins: 1 P, 2 N
text: +

## 860080575016
designator C?, comment 390µF  (value not drawn)
WCAP-ATLI Aluminum Electrolytic Capacitor, Radial, THT, D10 x H20mm, 390µF, 35V; Manufacturer Part Number: 860080575016; Manufacturer: Wurth Elektronik; Capacitance Tolerance: +/-20%; Dissipation Factor: 9%; Endurance: 5000h; Leakage Current: 136.5µA; Ripple Current: 1550mA; Technical Reference: ATEF200391M035DSPAAE000; Category: Aluminum Electrolytic Capacitors; Match Code: WCAP-ATLI; ComponentLink1Description: Website Link; ComponentLink1URL: https://www.we-online.com/redexpert/article/860080575016?ad; ComponentLink2Description: Datasheet Link; ComponentLink2URL: https://www.we-online.com/redexpert/spec/860080575016?ad; Mount: Through Hole; Operating Temperature Max: 105°C; Operating Temperature Min: -55°C; Packaging: Ammo Pack; Height: 20mm; Diameter: 10mm; Capacitance: 390µF; Rated Voltage (DC): 35V
footprint WCAP-ATLI_D10H20
simulation model 860080575016_390uF
pins: 1 P, 2 N
text: +

## 860080575017
designator C?, comment 470µF  (value not drawn)
WCAP-ATLI Aluminum Electrolytic Capacitor, Radial, THT, D10 x H20mm, 470µF, 35V; Manufacturer Part Number: 860080575017; Manufacturer: Wurth Elektronik; Capacitance Tolerance: +/-20%; Dissipation Factor: 9%; Endurance: 5000h; Leakage Current: 164.5µA; Ripple Current: 1850mA; Technical Reference: ATEF200471M035DSPAAE000; Category: Aluminum Electrolytic Capacitors; Match Code: WCAP-ATLI; ComponentLink1Description: Website Link; ComponentLink1URL: https://www.we-online.com/redexpert/article/860080575017?ad; ComponentLink2Description: Datasheet Link; ComponentLink2URL: https://www.we-online.com/redexpert/spec/860080575017?ad; Mount: Through Hole; Operating Temperature Max: 105°C; Operating Temperature Min: -55°C; Packaging: Ammo Pack; Height: 20mm; Diameter: 10mm; Capacitance: 470µF; Rated Voltage (DC): 35V
footprint WCAP-ATLI_D10H20
simulation model 860080575017_470uF
pins: 1 P, 2 N
text: +

## 860080575018
designator C?, comment 560µF  (value not drawn)
WCAP-ATLI Aluminum Electrolytic Capacitor, Radial, THT, D10 x H25mm, 560µF, 35V; Manufacturer Part Number: 860080575018; Manufacturer: Wurth Elektronik; Capacitance Tolerance: +/-20%; Dissipation Factor: 9%; Endurance: 5000h; Leakage Current: 196µA; Ripple Current: 2040mA; Technical Reference: ATEF250561M035DSPAAE000; Category: Aluminum Electrolytic Capacitors; Match Code: WCAP-ATLI; ComponentLink1Description: Website Link; ComponentLink1URL: https://www.we-online.com/redexpert/article/860080575018?ad; ComponentLink2Description: Datasheet Link; ComponentLink2URL: https://www.we-online.com/redexpert/spec/860080575018?ad; Mount: Through Hole; Operating Temperature Max: 105°C; Operating Temperature Min: -55°C; Packaging: Ammo Pack; Height: 25mm; Diameter: 10mm; Capacitance: 560µF; Rated Voltage (DC): 35V
footprint WCAP-ATLI_D10H25
simulation model 860080575018_560uF
pins: 1 P, 2 N
text: +

## 860080578019
designator C?, comment 680µF  (value not drawn)
WCAP-ATLI Aluminum Electrolytic Capacitor, Radial, THT, D13 x H20mm, 680µF, 35V; Manufacturer Part Number: 860080578019; Manufacturer: Wurth Elektronik; Capacitance Tolerance: +/-20%; Dissipation Factor: 9%; Endurance: 5000h; Leakage Current: 238µA; Ripple Current: 2260mA; Technical Reference: ATEI200681M035DSPACE000; Category: Aluminum Electrolytic Capacitors; Match Code: WCAP-ATLI; ComponentLink1Description: Website Link; ComponentLink1URL: https://www.we-online.com/redexpert/article/860080578019?ad; ComponentLink2Description: Datasheet Link; ComponentLink2URL: https://www.we-online.com/redexpert/spec/860080578019?ad; Mount: Through Hole; Operating Temperature Max: 105°C; Operating Temperature Min: -55°C; Packaging: Ammo Pack; Height: 20mm; Diameter: 13mm; Capacitance: 680µF; Rated Voltage (DC): 35V
footprint WCAP-ATLI_D13H20
simulation model 860080578019_680uF
pins: 1 P, 2 N
text: +

## 860080578020
designator C?, comment 820µF  (value not drawn)
WCAP-ATLI Aluminum Electrolytic Capacitor, Radial, THT, D13 x H25mm, 820µF, 35V; Manufacturer Part Number: 860080578020; Manufacturer: Wurth Elektronik; Capacitance Tolerance: +/-20%; Dissipation Factor: 9%; Endurance: 5000h; Leakage Current: 287µA; Ripple Current: 2630mA; Technical Reference: ATEI250821M035DSPACE000; Category: Aluminum Electrolytic Capacitors; Match Code: WCAP-ATLI; ComponentLink1Description: Website Link; ComponentLink1URL: https://www.we-online.com/redexpert/article/860080578020?ad; ComponentLink2Description: Datasheet Link; ComponentLink2URL: https://www.we-online.com/redexpert/spec/860080578020?ad; Mount: Through Hole; Operating Temperature Max: 105°C; Operating Temperature Min: -55°C; Packaging: Ammo Pack; Height: 25mm; Diameter: 13mm; Capacitance: 820µF; Rated Voltage (DC): 35V
footprint WCAP-ATLI_D13H25
simulation model 860080578020_820uF
pins: 1 P, 2 N
text: +

## 860080578021
designator C?, comment 1000µF  (value not drawn)
WCAP-ATLI Aluminum Electrolytic Capacitor, Radial, THT, D13 x H25mm, 1000µF, 35V; Manufacturer Part Number: 860080578021; Manufacturer: Wurth Elektronik; Capacitance Tolerance: +/-20%; Dissipation Factor: 9%; Endurance: 5000h; Leakage Current: 350µA; Ripple Current: 2780mA; Technical Reference: ATEI250102M035DSPACE000; Category: Aluminum Electrolytic Capacitors; Match Code: WCAP-ATLI; ComponentLink1Description: Website Link; ComponentLink1URL: https://www.we-online.com/redexpert/article/860080578021?ad; ComponentLink2Description: Datasheet Link; ComponentLink2URL: https://www.we-online.com/redexpert/spec/860080578021?ad; Mount: Through Hole; Operating Temperature Max: 105°C; Operating Temperature Min: -55°C; Packaging: Ammo Pack; Height: 25mm; Diameter: 13mm; Capacitance: 1000µF; Rated Voltage (DC): 35V
footprint WCAP-ATLI_D13H25
simulation model 860080578021_1mF
pins: 1 P, 2 N
text: +

## 860080578022
designator C?, comment 1200µF  (value not drawn)
WCAP-ATLI Aluminum Electrolytic Capacitor, Radial, THT, D13 x H30mm, 1200µF, 35V; Manufacturer Part Number: 860080578022; Manufacturer: Wurth Elektronik; Capacitance Tolerance: +/-20%; Dissipation Factor: 9%; Endurance: 5000h; Leakage Current: 420µA; Ripple Current: 2950mA; Technical Reference: ATEI300122M035DSPACE000; Category: Aluminum Electrolytic Capacitors; Match Code: WCAP-ATLI; ComponentLink1Description: Website Link; ComponentLink1URL: https://www.we-online.com/redexpert/article/860080578022?ad; ComponentLink2Description: Datasheet Link; ComponentLink2URL: https://www.we-online.com/redexpert/spec/860080578022?ad; Mount: Through Hole; Operating Temperature Max: 105°C; Operating Temperature Min: -55°C; Packaging: Ammo Pack; Height: 30mm; Diameter: 13mm; Capacitance: 1200µF; Rated Voltage (DC): 35V
footprint WCAP-ATLI_D13H30
simulation model 860080578022_1.2mF
pins: 1 P, 2 N
text: +

## 860080578024
designator C?, comment 1500µF  (value not drawn)
WCAP-ATLI Aluminum Electrolytic Capacitor, Radial, THT, D13 x H35mm, 1500µF, 35V; Manufacturer Part Number: 860080578024; Manufacturer: Wurth Elektronik; Capacitance Tolerance: +/-20%; Dissipation Factor: 9%; Endurance: 5000h; Leakage Current: 525µA; Ripple Current: 3350mA; Technical Reference: ATEI350152M035DSPABE000; Category: Aluminum Electrolytic Capacitors; Match Code: WCAP-ATLI; ComponentLink1Description: Website Link; ComponentLink1URL: https://www.we-online.com/redexpert/article/860080578024?ad; ComponentLink2Description: Datasheet Link; ComponentLink2URL: https://www.we-online.com/redexpert/spec/860080578024?ad; Mount: Through Hole; Operating Temperature Max: 105°C; Operating Temperature Min: -55°C; Packaging: Ammo Pack; Height: 35mm; Diameter: 13mm; Capacitance: 1500µF; Rated Voltage (DC): 35V
footprint WCAP-ATLI_D13H35
simulation model 860080578024_1.5mF
pins: 1 P, 2 N
text: +